# Altium integrated library Control_Board_Library.IntLib: 63 symbols
Pins are listed as number, name and electrical type; pins without a type are passive.

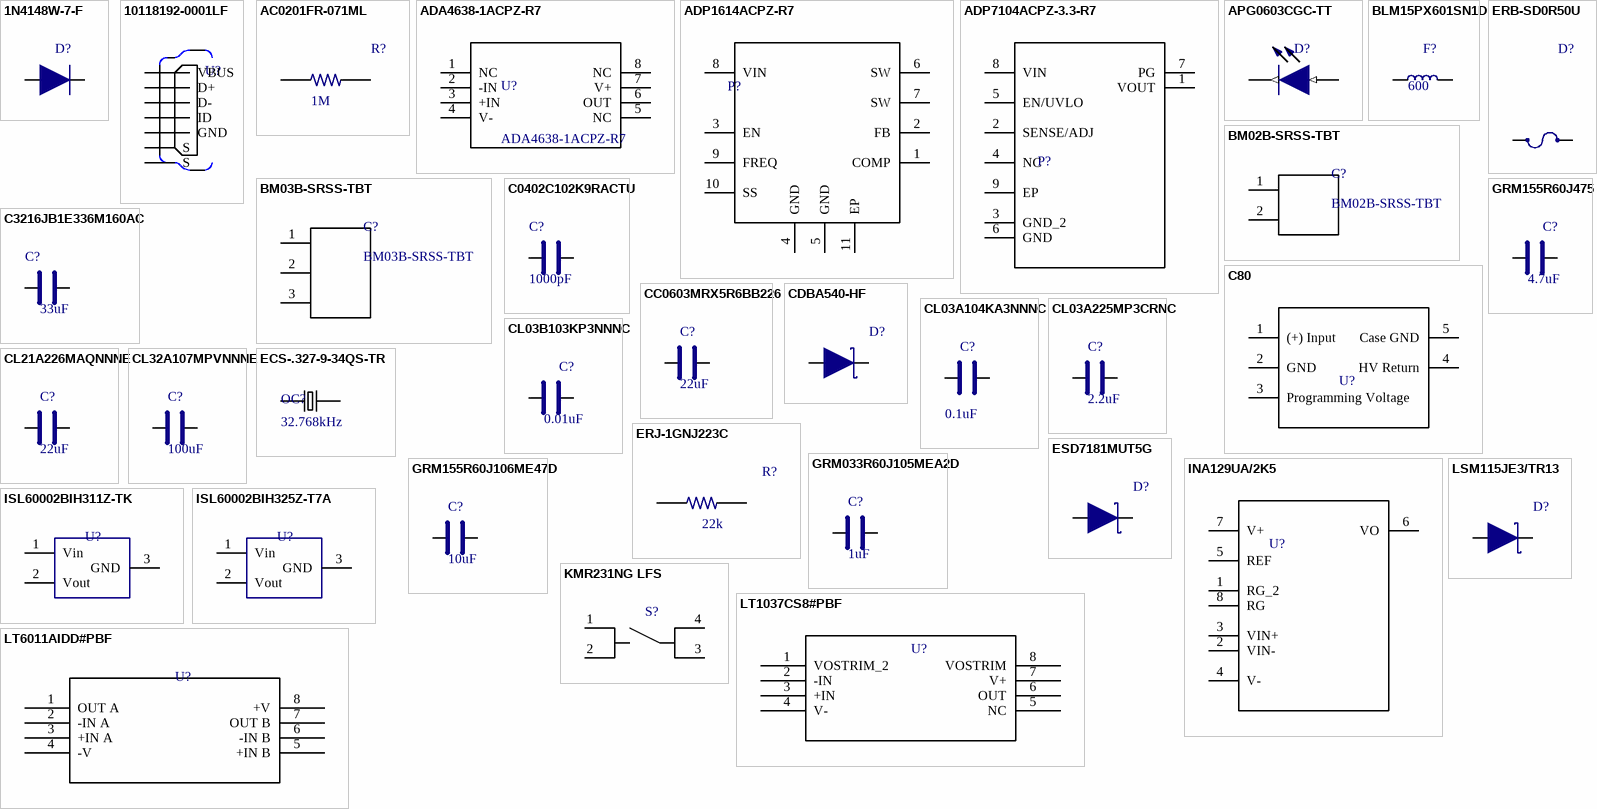
[diagram p0: symbols 1N4148W-7-F to LT6011AIDD#PBF]

## 1N4148W-7-F
designator D?  (value not drawn)
DIODE GEN PURP 100V 300MA SOD123; Manufacturer: Diodes Incorporated; Forward Voltage: 1.25V @ 150mA; Package: 0201 (0603 Metric); Manufacturer Part Number: 1N4148W-7-F; Digikey Part Number: 1N4148W-FDICT-ND; Unit Price: $0.18; Supplier: Digikey; DC Reverse: 100V
footprint 1N4148W-7-F
pins: 1, 2

## 10118192-0001LF
designator U?  (value not drawn)
CONN USB MICRO B RECPT SMT R/A; Manufacturer: Amphenol FCL; Manufacturer Part Number: 10118192-0001LF; Digikey Part Number: 609-4613-1-ND; Unit Price: $0.42; Supplier: Digikey
footprint 10118192-0001LF
pins: 1 VBUS, 2 D-, 3 D+, 4 ID, 5 GND, 6 S, 7 S

## AC0201FR-071ML
designator R?  value 1M  (hidden comment: AC0201FR-071ML)
RES SMD 1M OHM 1% 1/20W 0201; Manufacturer: Yageo; Power (Watts): 0.05W; Package: 0201 (0603 Metric); Manufacturer Part Number: AC0201FR-071ML; Digikey Part Number: YAG3418CT-ND; Unit Price: 0.1; Supplier: Digikey
footprint AC0201FR-071ML
pins: 1, 2

## ADA4638-1ACPZ-R7
designator U?
IC OPAMP ZRO-DRFT 1.5MHZ 8LFCSP; Manufacturer: Analog Device; Package: 8-LFCSP; Manufacturer Part Number: ADA4638-1ACPZ-R7; Digikey Part Number: ADA4638-1ACPZ-R7CT-ND; Unit Price: $3.49; Supplier: Digikey
footprint ADA4638-1ACPZ-R7
pins: 1 NC (power), 2 -IN, 3 +IN, 4 V-, 5 NC, 6 OUT, 7 V+, 8 NC

## ADP1614ACPZ-R7
designator P?  (value not drawn)
IC REG BOOST ADJ 4A 10LFCSP; Manufacturer: Analog Devices; Voltage Output: 2.5V-20V; Voltage Input: 2.5-5.5V; Current Output: 3A (fixed); Manufacturer Part Number: ADP1614ACPZ-R7; Digikey Part Number: ADP1614ACPZ-R7CT-ND; Package: 10-LFCSP_WD; Unit Price: $2.89
footprint ADP1614ACPZ-1.3-R7
pins: 1 COMP, 2 FB, 3 EN, 4 GND, 5 GND, 6 SW, 7 SW, 8 VIN, 9 FREQ, 10 SS, 11 EP

## ADP7104ACPZ-3.3-R7
designator P?  (value not drawn)
IC REG LINEAR 3.3V 500MA 8LFCSP; Manufacturer: Analog Devices; Voltage Output: 3.3V (fixed); Voltage Input: 20V (max); Manufacturer Part Number: ADP7104ACPZ-3.3-R7; Digikey Part Number: ADP7104ACPZ-3.3-R7DKR-ND; Current Output: 500mA; Package: 8-LFCSP_WD; Unit Price: $4.5
footprint ADP7104ARDZ-3.3
pins: 1 VOUT, 2 SENSE/ADJ, 3 GND_2, 4 NC, 5 EN/UVLO, 6 GND, 7 PG, 8 VIN, 9 EP

## APG0603CGC-TT
designator D?  (value not drawn)
LED GREEN CLEAR 2SMD; Manufacturer: Kingbright; Wavelength: Green (571nm); Current: 10mA; Forward Voltage: 1.97V; Package: 0201 (0603 Metric); Manufacturer Part Number: APG0603CGC-TT; Digikey Part Number: 754-2021-1-ND; Unit Price: $0.55; Supplier: Digikey
footprint APG0603CGC-TT
pins: 1 A (in), 2 K (out)

## BLM15PX601SN1D
designator F?  value 600  (hidden comment: BLM15PX601SN1D)
FERRITE BEAD 600 OHM 0402 1LN; Manufacturer: Murata; Current Rating: 900mA; Impedance @ Frequency: 600 Ohms @ 100MHz; Package: 0402 (1005 Metric); Manufacturer Part Number: BLM15PX601SN1D; Digikey Part Number: 445-180338-6-ND; Unit Price: $0.15; Supplier: Digikey
footprint BLM15PX601SN1D
pins: 1, 2

## BM02B-SRSS-TBT
designator C?
CONN WIRE HDR 2POS 1MM STSMD; Manufacturer: JST; Digikey Part Number: 455-2955-1-ND; Unit Price: $7.85; Manufacturer Part Number: BM02B-SRSS-TBT
footprint BM02B-SRSS-TBT
pins: 1, 2

## BM03B-SRSS-TBT
designator C?
CONN WIRE HDR 3POS 1MM STSMD; Manufacturer: JST; Digikey Part Number: 455-1789-6-ND; Unit Price: $0.54; Manufacturer Part Number: BM03B-SRSS-TBT
footprint BM03B-SRSS-TBT
pins: 1, 2, 3

## C80
designator U?  (value not drawn)
DC DC CONVERTER 8000V 1W; Manufacturer: XP Power; Package: 5-DIP Module; Manufacturer Part Number: C80; Digikey Part Number: 1470-3260-ND; Unit Price: $393.30; Supplier: Digikey
footprint C80
pins: 1 (+) Input, 2 GND, 3 Programming Voltage, 4 HV Return, 5 Case GND

## C0402C102K9RACTU
designator C?  value 1000pF  (hidden comment: C0402C102K9RACTU)
CAP CER 1000PF 6.3V X7R 0402; Manufacturer: Murata; Manufacturer Part Number: GRM155R60J106ME47D; Package: 0402 (1005 Metric); Digikey Part Number: 399-8941-6-ND; Voltage Rated: 6.3V; Temperature Coefficient: X7R; Unit Price: $0.1; Supplier: Digikey
footprint C0402C102K9RACTU
pins: 1, 2

## C3216JB1E336M160AC
designator C?  value 33uF  (hidden comment: C3216JB1E336M160AC)
CAP CER 33UF 25V JB 1206; Manufacturer: TDK Corporation; Temperature Coefficient: X5R; Package: 1206 (3216 Metric); Manufacturer Part Number: C3216JB1E336M160AC; Digikey Part Number: 445-11710-1-ND; Voltage Rated: 25V; Unit Price: $0.75; Supplier: Digikey
footprint C3216JB1E336M160AC
pins: 1, 2

## CC0603MRX5R6BB226
designator C?  value 22uF  (hidden comment: CC0603MRX5R6BB226)
CAP CER 22UF 10V X5R 0603; Manufacturer: Yageo; Package: 0603 (1608 Metric); Manufacturer Part Number: CC0603MRX5R6BB226; Digikey Part Number: 311-1819-1-ND; Voltage Rated: 10V; Temperature Coefficient: X5R; Unit Price: $0.77; Supplier: Digikey
footprint CC0603MRX5R6BB226
pins: 1, 2

## CDBA540-HF
designator D?  (value not drawn)
Manufacturer: Comchip Technology; DC Reverse: 40V; Forward Voltage: 550mV @ 5A; Package: DO-214AC; Manufacturer Part Number: CDBA540-HF; Digikey Part Number: 641-1707-1-ND; Unit Price: $0.49; Supplier: Digikey
footprint CDBA540-HF
pins: 1, 2

## CL03A104KA3NNNC
designator C?  value 0.1uF  (hidden comment: CL03A104KA3NNNC)
CAP CER 0.1UF 25V X5R 0201; Manufacturer: Samsung; Package: 0201 (0603 Metric); Manufacturer Part Number: CL03A104KA3NNNC; Digikey Part Number: 1276-1318-6-ND; Voltage Rated: 25V; Temperature Coefficient: X5R; Unit Price: $0.75; Supplier: Digikey
footprint CL03A104KA3NNNC
pins: 1, 2

## CL03A225MP3CRNC
designator C?  value 2.2uF  (hidden comment: CL03A225MP3CRNC)
CAP CER 2.2UF 10V X5R 0201; Manufacturer: Samsung; Package: 0201 (0603 Metric); Manufacturer Part Number: CL03A225MP3CRNC; Digikey Part Number: 1276-6829-1-ND; Voltage Rated: 10V; Temperature Coefficient: X5R; Unit Price: $0.41; Supplier: Digikey
footprint CL03A225MP3CRNC
pins: 1, 2

## CL03B103KP3NNNC
designator C?  value 0.01uF  (hidden comment: CL03B103KP3NNNC)
CAP CER 10000PF 10V X7R 0201; Manufacturer: Samsung; Package: 0201 (0603 Metric); Manufacturer Part Number: CL03B103KP3NNNC; Digikey Part Number: 1276-1152-1-ND; Voltage Rated: 10V; Temperature Coefficient: X7R; Unit Price: 0.13; Supplier: Digikey
footprint CL03B103KP3NNNC
pins: 1, 2

## CL21A226MAQNNNE
designator C?  value 22uF  (hidden comment: CL21A226MAQNNNE)
CAP CER 22UF 25V X5R 0805; Manufacturer: Samsung; Package: 0603 (1608 Metric); Manufacturer Part Number: CL21A226MAQNNNE; Digikey Part Number: 1276-2908-1-ND; Voltage Rated: 25V; Temperature Coefficient: X5R; Unit Price: $0.75; Supplier: Digikey
footprint CL21A226MAQNNNE
pins: 1, 2

## CL32A107MPVNNNE
designator C?  value 100uF  (hidden comment: CL32A107MPVNNNE)
CAP CER 100UF 10V X5R 1210; Manufacturer: Samsung; Package: 1210 (3225 Metric); Manufacturer Part Number: CL32A107MPVNNNE; Digikey Part Number: 1276-3364-1-ND; Voltage Rated: 10V; Temperature Coefficient: X5R; Unit Price: $1.11; Supplier: Digikey
footprint CL32A107MPVNNNE
pins: 1, 2

## ECS-.327-9-34QS-TR
designator OC?  value 32.768kHz  (hidden comment: ECS-.327-9-34QS-TR)
CRYSTAL 32.768KHZ 9PF SMD; Manufacturer: ECS; Package: 2-SMD; Manufacturer Part Number: ECS-.327-9-34QS-TR; Digikey Part Number: XC2156DKR-ND; Unit Price: $0.74; Supplier: Digikey
footprint ECS-.327-9-34QS-TR
pins: 1 I/O, 2 O/I

## ERB-SD0R50U
designator D?  (value not drawn)
FUSE BOARD MNT 500MA 24VDC 0402; Manufacturer: Panasonic; Package: 0402; Manufacturer Part Number: ERB-SD0R50U; Digikey Part Number: P11361CT-ND; Unit Price: $0.48; Supplier: Digikey; Forward Voltage: 500mA
footprint ERB-SD0R50U
pins: 1 In, 2 Out

## ERJ-1GNJ223C
designator R?  value 22k  (hidden comment: ERJ-1GNJ223C)
RES SMD 22K OHM 5% 1/20W 0201; Manufacturer: Samsung; Power (Watts): 0.05W; Package: 0201 (0603 Metric); Manufacturer Part Number: ERJ-1GNJ223C; Digikey Part Number: P123278CT-ND; Unit Price: 0.1; Supplier: Digikey
footprint ERJ-1GNJ223C
pins: 1, 2

## ESD7181MUT5G
designator D?  (value not drawn)
TVS DIODE 18.5V 35V 2X3DFN; Manufacturer: ON Semiconductor; DC Reverse: 40V; Package: 0201 (0603 Metric); Manufacturer Part Number: ESD7181MUT5G; Digikey Part Number: ESD7181MUT5GOSCT-ND; Unit Price: $0.49; Supplier: Digikey
footprint ESD7181MU
pins: 1, 2

## GRM033R60J105MEA2D
designator C?  value 1uF  (hidden comment: GRM033R60J105MEA2D)
CAP CER 1UF 6.3V X5R 0201; Manufacturer: Murata; Package: 0201 (0603 Metric); Manufacturer Part Number: GRM033R60J105MEA2D; Digikey Part Number: 490-7229-1-ND; Voltage Rated: 6.3V; Temperature Coefficient: X5R; Unit Price: $0.15; Supplier: Digikey
footprint GRM033R60J105MEA2D
pins: 1, 2

## GRM155R60J106ME47D
designator C?  value 10uF  (hidden comment: GRM155R60J106ME47D)
CAP CER 10UF 6.3V X5R 0402; Manufacturer: Murata; Package: 0402 (1005 Metric); Manufacturer Part Number: GRM155R60J106ME47D; Digikey Part Number: 490-13239-1-ND; Voltage Rated: 6.3V; Temperature Coefficient: X5R; Unit Price: $0.85; Supplier: Digikey
footprint GRM155R60J106ME47D
pins: 1, 2

## GRM155R60J475
designator C?  value 4.7uF  (hidden comment: GRM155R60J475)
CAP CER 4.7UF 6.3V X5R 0402; Manufacturer: Murata; Manufacturer Part Number: GRM155R60J475ME47D‎; Package: 0402; Digikey Part Number: ‎490-5915-1-ND‎; Voltage Rated: 6.3V; Temperature Coefficient: X5R; Unit Price: $0.55; Supplier: Digikey
footprint C0402C102K9RACTU
pins: 1, 2

## INA129UA/2K5
designator U?  (value not drawn)
IC OPAMP INSTR 1.3MHZ 8SOIC; Manufacturer: Texas Instruments; Package: 8-SOIC; Manufacturer Part Number: INA129UA/2K5; Digikey Part Number: 296-26058-1-ND; Unit Price: $7.46; Supplier: Digikey
footprint INA129UA/2K5
pins: 1 RG_2, 2 VIN-, 3 VIN+, 4 V-, 5 REF, 6 VO, 7 V+, 8 RG

## ISL60002BIH311Z-TK
designator U?  (value not drawn)
IC VREF SERIES 1.2V SOT23-3; Manufacturer: Renesas Electronics; Package: SOT-23-3; Manufacturer Part Number: ISL60002BIH311Z-TK; Digikey Part Number: ISL60002BIH311Z-TKCT-ND; Unit Price: $6.41; Supplier: Digikey
footprint ISL60002-12
pins: 1 Vin, 2 Vout, 3 GND

## ISL60002BIH325Z-T7A
designator U?  (value not drawn)
IC VREF SERIES 2.5V SOT23-3; Manufacturer: Renesas Electronics; Manufacturer Part Number: ISL60002BIH325Z-TK; Package: SOT-23-3; Digikey Part Number: ISL60002BIH325Z-T7ADKR-ND; Unit Price: $6.41; Supplier: Digikey
footprint ISL60002-25
pins: 1 Vin, 2 Vout, 3 GND

## KMR231NG LFS
designator S?  (value not drawn)
SWITCH TACTILE SPST-NO 0.02A 15V; Manufacturer: C&K; Package: SPST-NO; Manufacturer Part Number: KMR231NG LFS; Digikey Part Number: CKN10246TR-ND; Unit Price: $0.58; Supplier: Digikey
footprint KMR221GLFS
pins: 1, 2, 3, 4

## LSM115JE3/TR13
designator D?  (value not drawn)
DIODE SCHOTTKY 15V 1A DO214AC; Manufacturer: Microsemi; Forward Voltage: 220mV @ 1A; Package: DO-214AC; Manufacturer Part Number: LSM115JE3/TR13; Digikey Part Number: LSM115JE3/TR13CT-ND; Unit Price: $1.17; Supplier: Digikey; DC Reverse: 15V
footprint LSM115JE3/TR13
pins: 1, 2

## LT1037CS8#PBF
designator U?  (value not drawn)
IC OPAMP GP 60MHZ 8SO; Manufacturer: Linear Technology; Value: 15.85k; Package: 8-SOIC; Manufacturer Part Number: LT1037CS8#PBF; Digikey Part Number: LT1037CS8#PBF-ND; Unit Price: $4.23; Supplier: Digikey
footprint LT1037CS8#PBF
pins: 1 VOSTRIM_2, 2 -IN, 3 +IN, 4 V-, 5 NC, 6 OUT, 7 V+, 8 VOSTRIM

## LT6011AIDD#PBF
designator U?  (value not drawn)
IC OPAMP GP 350KHZ RRO 8DFN; Manufacturer: Analog Device; Package: 8 DFN; Manufacturer Part Number: LT6011AIDD#PBF; Digikey Part Number: LT6011AIDD#PBF-ND; Unit Price: $8.43; Supplier: Digikey
footprint LT6011AIDD#PBF
pins: 1 OUT A, 2 -IN A, 3 +IN A, 4 -V, 5 +IN B, 6 -IN B, 7 OUT B, 8 +V

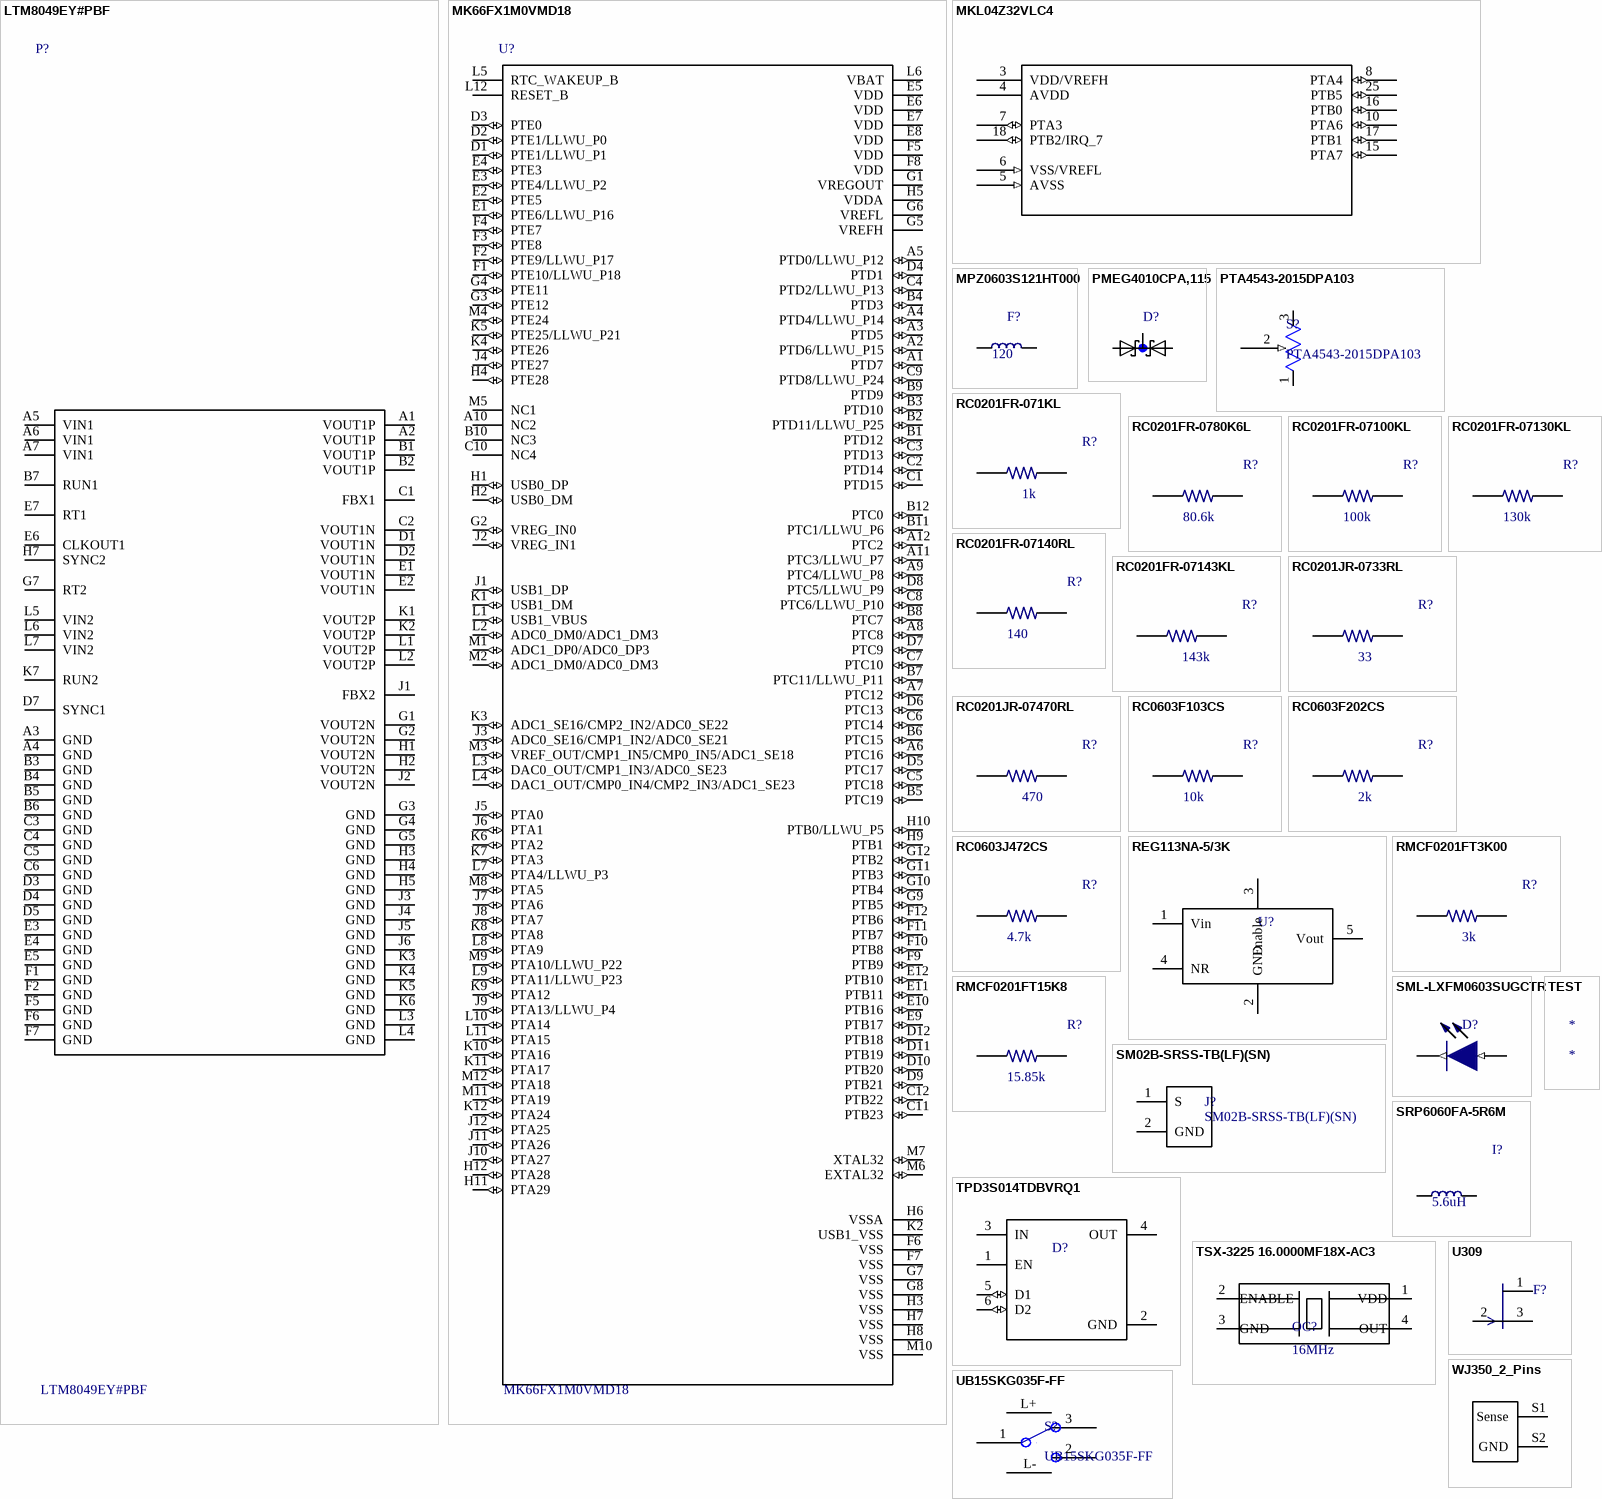
[diagram p1: symbols LTM8049EY#PBF to WJ350_2_Pins]

## LTM8049EY#PBF
designator P?
DC DC CONVERTER +/-2.5 TO +/-24V; Manufacturer: Linear Technology; Digikey Part Number: LTM8049EY#PBF-ND; Manufacturer Part Number: LTM8049EY#PBF; Unit Price: $24.75; Package / Case: 77-BBGA
footprint LTM8049EY#PBF
pins: A1 VOUT1P, A2 VOUT1P, A3 GND, A4 GND, A5 VIN1, A6 VIN1, A7 VIN1, B1 VOUT1P, B2 VOUT1P, B3 GND, B4 GND, B5 GND, B6 GND, B7 RUN1, C1 FBX1, C2 VOUT1N, C3 GND, C4 GND, C5 GND, C6 GND, D1 VOUT1N, D2 VOUT1N, D3 GND, D4 GND, D5 GND, D7 SYNC1, E1 VOUT1N, E2 VOUT1N, E3 GND, E4 GND, E5 GND, E6 CLKOUT1, E7 RT1, F1 GND, F2 GND, F5 GND, F6 GND, F7 GND, G1 VOUT2N, G2 VOUT2N, G3 GND, G4 GND, G5 GND, G7 RT2, H1 VOUT2N, H2 VOUT2N, H3 GND, H4 GND, H5 GND, H7 SYNC2, J1 FBX2, J2 VOUT2N, J3 GND, J4 GND, J5 GND, J6 GND, K1 VOUT2P, K2 VOUT2P, K3 GND, K4 GND, K5 GND, K6 GND, K7 RUN2, L1 VOUT2P, L2 VOUT2P, L3 GND, L4 GND, L5 VIN2, L6 VIN2, L7 VIN2

## MK66FX1M0VMD18
designator U?
Kinetis K66: 180MHz Cortex-M4F MCU, 1.2MB Flash, 256KB SRAM, 2xUSB, Ethernet, 144-MAPBGA; Manufacturer: NXP Semiconductors; Digikey Part Number: 568-13335-ND; Manufacturer Part Number: MK66FX1M0VMD18; Unit Price: $17.64; Package / Case: 144-LBGA
footprint MK66FX1M0VMD18
pins: A1 PTD7 (io), A2 PTD6/LLWU_P15 (io), A3 PTD5 (io), A4 PTD4/LLWU_P14 (io), A5 PTD0/LLWU_P12 (io), A6 PTC16 (io), A7 PTC12 (io), A8 PTC8 (io), A9 PTC4/LLWU_P8 (io), A10 NC2, A11 PTC3/LLWU_P7 (io), A12 PTC2 (io), B1 PTD12 (io), B2 PTD11/LLWU_P25 (io), B3 PTD10 (io), B4 PTD3 (io), B5 PTC19 (io), B6 PTC15 (io), B7 PTC11/LLWU_P11 (io), B8 PTC7 (io), B9 PTD9 (io), B10 NC3, B11 PTC1/LLWU_P6 (io), B12 PTC0 (io), C1 PTD15 (io), C2 PTD14 (io), C3 PTD13 (io), C4 PTD2/LLWU_P13 (io), C5 PTC18 (io), C6 PTC14 (io), C7 PTC10 (io), C8 PTC6/LLWU_P10 (io), C9 PTD8/LLWU_P24 (io), C10 NC4, C11 PTB23 (io), C12 PTB22 (io), D1 PTE1/LLWU_P1 (io), D2 PTE1/LLWU_P0 (io), D3 PTE0 (io), D4 PTD1 (io), D5 PTC17 (io), D6 PTC13 (io), D7 PTC9 (io), D8 PTC5/LLWU_P9 (io), D9 PTB21 (io), D10 PTB20 (io), D11 PTB19 (io), D12 PTB18 (io), E1 PTE6/LLWU_P16 (io), E2 PTE5 (io), E3 PTE4/LLWU_P2 (io), E4 PTE3 (io), E5 VDD, E6 VDD, E7 VDD, E8 VDD, E9 PTB17 (io), E10 PTB16 (io), E11 PTB11 (io), E12 PTB10 (io), F1 PTE10/LLWU_P18 (io), F2 PTE9/LLWU_P17 (io), F3 PTE8 (io), F4 PTE7 (io), F5 VDD, F6 VSS, F7 VSS, F8 VDD, F9 PTB9 (io), F10 PTB8 (io), F11 PTB7 (io), F12 PTB6 (io), G1 VREGOUT, G2 VREG_IN0 (io), G3 PTE12 (io), G4 PTE11 (io), G5 VREFH, G6 VREFL, G7 VSS, G8 VSS, G9 PTB5 (io), G10 PTB4 (io), G11 PTB3 (io), G12 PTB2 (io), H1 USB0_DP (io), H2 USB0_DM (io), H3 VSS, H4 PTE28 (io), H5 VDDA, H6 VSSA, H7 VSS, H8 VSS, H9 PTB1 (io), H10 PTB0/LLWU_P5 (io), H11 PTA29 (io), H12 PTA28 (io), J1 USB1_DP (io), J2 VREG_IN1 (io), J3 ADC0_SE16/CMP1_IN2/ADC0_SE21 (io), J4 PTE27 (io), J5 PTA0 (io), J6 PTA1 (io), J7 PTA6 (io), J8 PTA7 (io), J9 PTA13/LLWU_P4 (io), J10 PTA27 (io), J11 PTA26 (io), J12 PTA25 (io), K1 USB1_DM (io), K2 USB1_VSS, K3 ADC1_SE16/CMP2_IN2/ADC0_SE22 (io), K4 PTE26 (io), K5 PTE25/LLWU_P21 (io), K6 PTA2 (io), K7 PTA3 (io), K8 PTA8 (io), K9 PTA12 (io), K10 PTA16 (io), K11 PTA17 (io), K12 PTA24 (io), L1 USB1_VBUS (io), L2 ADC0_DM0/ADC1_DM3 (io), L3 DAC0_OUT/CMP1_IN3/ADC0_SE23 (io), L4 DAC1_OUT/CMP0_IN4/CMP2_IN3/ADC1_SE23 (io), L5 RTC_WAKEUP_B, L6 VBAT, L7 PTA4/LLWU_P3 (io), L8 PTA9 (io), L9 PTA11/LLWU_P23 (io), L10 PTA14 (io), L11 PTA15 (io), L12 RESET_B, M1 ADC1_DP0/ADC0_DP3 (io), M2 ADC1_DM0/ADC0_DM3 (io), M3 VREF_OUT/CMP1_IN5/CMP0_IN5/ADC1_SE18 (io), M4 PTE24 (io), M5 NC1, M6 EXTAL32 (io), M7 XTAL32 (io), M8 PTA5 (io), M9 PTA10/LLWU_P22 (io), M10 VSS, M11 PTA19 (io), M12 PTA18 (io)

## MKL04Z32VLC4
designator U?
IC MCU 32BIT 32KB FLASH 32LQFP; Manufacturer: NXP Semiconductors; Digikey Part Number: MKL04Z32VLC4-ND; Manufacturer Part Number: MKL04Z32VLC4; Unit Price: $2.51; Package / Case: 32-LQFP
footprint MKL04Z32VLC4-ND
pins: 3 VDD/VREFH (power), 4 AVDD (power), 5 AVSS (in), 6 VSS/VREFL (in), 7 PTA3 (io), 8 PTA4 (io), 10 PTA6 (io), 15 PTA7 (io), 16 PTB0 (io), 17 PTB1 (io), 18 PTB2/IRQ_7 (io), 25 PTB5 (io)

## MPZ0603S121HT000
designator F?  value 120  (hidden comment: MPZ0603S121HT000)
CHIP BEADS FOR GENERAL SIGNAL LI; Manufacturer: TDK; Current Rating: 1A; Impedance @ Frequency: 120 Ohms @ 100MHz; Package: 0201 (0603 Metric); Manufacturer Part Number: MPZ0603S121HT000; Digikey Part Number: 445-180338-6-ND; Unit Price: $0.15; Supplier: Digikey
footprint MPZ0603S121HT000
pins: 1, 2

## PMEG4010CPA,115
designator D?  (value not drawn)
DIODE ARRAY SCHOTTKY 40V 3HUSON; Manufacturer: Nexperia; Forward Voltage: 500mV @ 1A; Package: 0201 (0603 Metric); Manufacturer Part Number: PMEG4010CPA,115; Digikey Part Number: 1727-5212-6-ND; Unit Price: $0.49; Supplier: Digikey; DC Reverse: 40V
footprint PMEG4010CPA,115
pins: 1 A1, 2 A2, 3 K1K2

## PTA4543-2015DPA103
designator S?
SLIDE POT 10KOHM 0.125W TOP 45MM; Manufacturer: Bourns; Digikey Part Number: PTA4543-2015DPA103-ND; Manufacturer Part Number: PTA4543-2015DPA103; Unit Price: $1.5
footprint PTA4543-2015DPA103
pins: 1 R1, 2 3 (in), 3 R2

## RC0201FR-071KL
designator R?  value 1k  (hidden comment: RC0201FR-071KL)
RES SMD 1K OHM 1% 1/20W 0201; Manufacturer: Yageo; Power (Watts): 0.05W; Package: 0201 (0603 Metric); Manufacturer Part Number: RC0201FR-071KL; Digikey Part Number: 311-1KMCT-ND; Unit Price: 0.1; Supplier: Digikey
footprint RC0603F202CS
pins: 1, 2

## RC0201FR-0780K6L
designator R?  value 80.6k  (hidden comment: RC0201FR-0780K6L)
RES SMD 80.6K OHM 1% 1/20W 0201; Manufacturer: Yageo; Power (Watts): 0.05W; Package: 0201 (0603 Metric); Manufacturer Part Number: RC0201FR-0780K6L; Digikey Part Number: YAG2810DKR-ND; Unit Price: 0.1; Supplier: Digikey
footprint RC0201FR-0780K6L
pins: 1, 2

## RC0201FR-07100KL
designator R?  value 100k  (hidden comment: RC0201FR-07100KL)
RES SMD 100K OHM 1% 1/20W 0201; Manufacturer: Yageo; Power (Watts): 0.05W; Package: 0201 (0603 Metric); Manufacturer Part Number: RC0201FR-07100KL; Digikey Part Number: 311-100KMCT-ND; Unit Price: 0.1; Supplier: Digikey
footprint RC0201FR-07100KL
pins: 1, 2

## RC0201FR-07130KL
designator R?  value 130k  (hidden comment: RC0201FR-07130KL)
RES SMD 130K OHM 1% 1/20W 0201; Manufacturer: Yageo; Power (Watts): 0.05W; Package: 0201 (0603 Metric); Manufacturer Part Number: RC0201FR-07130KL; Digikey Part Number: YAG2393DKR-ND; Unit Price: 0.1; Supplier: Digikey
footprint RC0201FR-07130KL
pins: 1, 2

## RC0201FR-07140RL
designator R?  value 140  (hidden comment: RC0201FR-07140RL)
RES SMD 140 OHM 1% 1/20W 0201; Manufacturer: Yageo; Manufacturer Part Number: RC0201JR-0768RL; Power (Watts): 0.05W; Package: 0201 (0603 Metric); Digikey Part Number: YAG2406DKR-ND; Unit Price: 0.1; Supplier: Digikey
footprint RC0201FR-07140RL
pins: 1, 2

## RC0201FR-07143KL
designator R?  value 143k  (hidden comment: RC0201FR-07143KL)
RES SMD 143K OHM 1% 1/20W 0201; Manufacturer: Yageo; Power (Watts): 0.05W; Package: 0201 (0603 Metric); Manufacturer Part Number: RC0201FR-07143KL; Digikey Part Number: YAG2407CT-ND; Unit Price: 0.1; Supplier: Digikey
footprint RC0201FR-07143KL
pins: 1, 2

## RC0201JR-0733RL
designator R?  value 33  (hidden comment: RC0201JR-0733RL)
RES SMD 33 OHM 5% 1/20W 0201; Manufacturer: Yageo; Power (Watts): 0.05W; Package: 0201 (0603 Metric); Manufacturer Part Number: RC0201JR-0733RL; Digikey Part Number: 311-33NCT-ND; Unit Price: 0.1; Supplier: Digikey
footprint RC0201JR-0733RL
pins: 1, 2

## RC0201JR-07470RL
designator R?  value 470  (hidden comment: RC0201JR-07470RL)
RES SMD 470 OHM 5% 1/20W 0201; Manufacturer: Yageo; Power (Watts): 0.05W; Package: 0201 (0603 Metric); Manufacturer Part Number: RC0201JR-07470RL; Digikey Part Number: 311-470NCT-ND; Unit Price: 0.1; Supplier: Digikey
footprint RC0201JR-07470RL
pins: 1, 2

## RC0603F103CS
designator R?  value 10k  (hidden comment: RC0603F103CS)
RES SMD 10K OHM 1% 1/20W 0201; Manufacturer: Samsung; Power (Watts): 0.05W; Package: 0201 (0603 Metric); Manufacturer Part Number: RC0603F103CS; Digikey Part Number: YAG2407CT-ND; Unit Price: 0.1; Supplier: Digikey
footprint RC0603F103CS
pins: 1, 2

## RC0603F202CS
designator R?  value 2k  (hidden comment: RC0603F202CS)
RES SMD 2K OHM 1% 1/20W 0201; Manufacturer: Samsung; Power (Watts): 0.05W; Package: 0201 (0603 Metric); Manufacturer Part Number: RC0603F202CS; Digikey Part Number: 1276-3633-1-ND; Unit Price: 0.1; Supplier: Digikey
footprint RC0603F202CS
pins: 1, 2

## RC0603J472CS
designator R?  value 4.7k  (hidden comment: RC0603J472CS)
RES SMD 4.7K OHM 5% 1/20W 0201; Manufacturer: Samsung; Power (Watts): 0.05W; Package: 0201 (0603 Metric); Manufacturer Part Number: RC0603J472CS; Digikey Part Number: 1276-3810-1-ND; Unit Price: 0.1; Supplier: Digikey
footprint RC0603J472CS
pins: 1, 2

## REG113NA-5/3K
designator U?, comment REG113NA  (value not drawn)
LDO Voltage Regulators DMOS 400mA Regulator Low-Dropout; Manufacturer: LT; Manufacturer Part Number: REG113NA-5/3K; Package: SOT-23-5; Digikey: REG113NA-5/3KCT-ND; Unit Price: $2.76; Supplier: Digikey
footprint REG113NA-5/3K
pins: 1 Vin, 2 GND, 3 Enable, 4 NR, 5 Vout

## RMCF0201FT3K00
designator R?  value 3k  (hidden comment: RMCF0201FT3K00)
RES 3K OHM 1% 1/20W 0201; Manufacturer: Stackpole; Power (Watts): 0.05W; Package: 0201 (0603 Metric); Manufacturer Part Number: RMCF0201FT3K00; Digikey Part Number: RMCF0201FT3K00CT-ND; Unit Price: 0.1; Supplier: Digikey
footprint RC0603F202CS
pins: 1, 2

## RMCF0201FT15K8
designator R?  value 15.85k  (hidden comment: RMCF0201FT15K8)
RES 15.8K OHM 1% 1/20W 0201; Manufacturer: Stackpole; Power (Watts): 0.05W; Package: 0201 (0603 Metric); Manufacturer Part Number: RMCF0201FT15K8; Digikey Part Number: RMCF0201FT15K8CT-ND; Unit Price: $0.1; Supplier: Digikey
footprint RMCF0201FT15K8
pins: 1, 2

## SM02B-SRSS-TB(LF)(SN)
designator J?
SH Series 2 Position 1 mm Pitch Surface Mount Side Entry Shrouded Header; MP: SM02B-SRSS-TB_LF__SN_; MF: JST; SnapEDA_Link: https://www.snapeda.com/parts/SM02B-SRSS-TB%28LF%29%28SN%29/JST%20Sales%20America%20Inc/view-part/?ref=snap; Package: None; Price: 0.24 USD; Availability: Good; Value: *
footprint SM02B-SRSS-TB(LF)(SN)
pins: 1 S, 2 GND

## SML-LXFM0603SUGCTR
designator D?  (value not drawn)
LED GREEN CLEAR SMD; Manufacturer: Lumex Opto/Components Inc.; Wavelength: Green (571nm); Current: 10mA; Forward Voltage: 2.2; Package: 0603 (1608 Metric); Manufacturer Part Number: SML-LXFM0603SUGCTR; Digikey Part Number: 67-2320-1-ND; Unit Price: $1.06; Supplier: Digikey
footprint SML-LXFM0603SUGCTR
footprint SML-LXFM0603SUGCTR
pins: 1 (in), 2 (out)

## SRP6060FA-5R6M
designator I?  value 5.6uH  (hidden comment: SRP6060FA-5R6M)
IND,6.6X6.4X5.8MM,5.6UH,20%,10A; Manufacturer: Bourns; Package: Non Standard; Manufacturer Part Number: SRP6060FA-5R6M; Digikey Part Number: SRP6060FA-5R6MCT-ND; Current Rating: 10A; Unit Price: $1.6; Supplier: Digikey
footprint SRP6060FA-5R6M
pins: 1, 2

## TEST
designator *

## TPD3S014TDBVRQ1
designator D?  (value not drawn)
TVS DIODE SOT23-6; Manufacturer: Texas Instruments; Package: SOT-23-6; Manufacturer Part Number: TPD3S014TDBVRQ1; Digikey Part Number: 296-44163-6-ND; Unit Price: $1.21; Supplier: Digikey
footprint TPD3S014TDBVRQ1
pins: 1 EN, 2 GND, 3 IN, 4 OUT, 5 D1 (io), 6 D2 (io)

## TSX-3225 16.0000MF18X-AC3
designator OC?  value 16MHz  (hidden comment: TSX-3225 16.0000MF18X-AC3)
CRYSTAL 16.0000MHZ 9PF SMD; Manufacturer: EPSON; Package: 4-SMD; Manufacturer Part Number: TSX-3225 16.0000MF18X-AC3; Digikey Part Number: SER3636CT-ND; Unit Price: $0.56; Supplier: Digikey
footprint TSX-3225 16.0000MF18X-AC3
pins: 1 VDD (io), 2 ENABLE (io), 3 GND (io), 4 OUT (io)

## U309
designator F?  (value not drawn)
JFET JFET N-Channel -25V 20mA 500mW 4mW; Manufacturer: InterFET; Package: TO-52-3; Manufacturer Part Number: U309; Digikey Part Number: 106-U309; Unit Price: $6.00; Supplier: Mouser
footprint U309
pins: 1 D, 2 G, 3 S

## UB15SKG035F-FF
designator S?
SWITCH PUSH SPDT 0.4VA 28V; Manufacturer: NKK Switches; Digikey Part Number: 360-1947-ND; Unit Price: $7.85
footprint UB15SKG035F-FF
pins: 1 COM, 2 NO, 3 NC, L+ (power), L-

## WJ350_2_Pins
designator PW, comment PW  (value not drawn)
footprint WJ350_2_Pins
pins: S1 Sense, S2 GND